# EAGLE library part AXK7204 (library connector-panasonic)
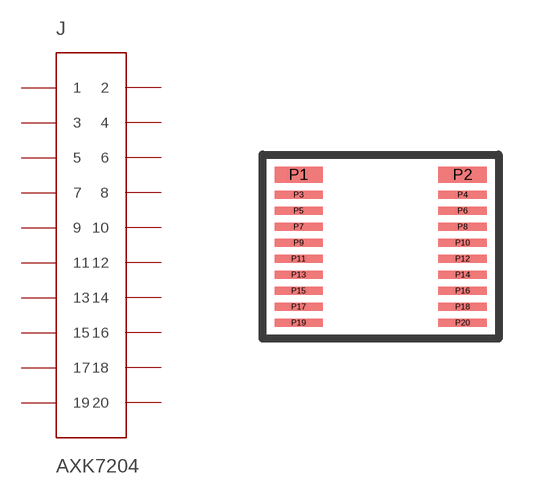
[diagram p0: symbol with the pads of SOCKET_20P; footprint SOCKET_20P]

Designator prefix J

## AXK720447G  [SOCKET_20P]
P1  1
P2  2
P3  3
P4  4
P5  5
P6  6
P7  7
P8  8
P9  9
P10  10
P11  11
P12  12
P13  13
P14  14
P15  15
P16  16
P17  17
P18  18
P19  19
P20  20

## Footprint SOCKET_20P (pad centres in mm)
smd 1.2 x 0.4: P1 0,0.1; P2 4.1,0.1
smd 1.2 x 0.2: P3 0,-0.4; P4 4.1,-0.4; P5 0,-0.8; P6 4.1,-0.8; P7 0,-1.2; P8 4.1,-1.2; P9 0,-1.6; P10 4.1,-1.6; P11 0,-2; P12 4.1,-2; P13 0,-2.4; P14 4.1,-2.4; P15 0,-2.8; P16 4.1,-2.8; P17 0,-3.2; P18 4.1,-3.2; P19 0,-3.6; P20 4.1,-3.6